# EAGLE library part PHAROS-TOCF (library HMC635x)
SUB-D
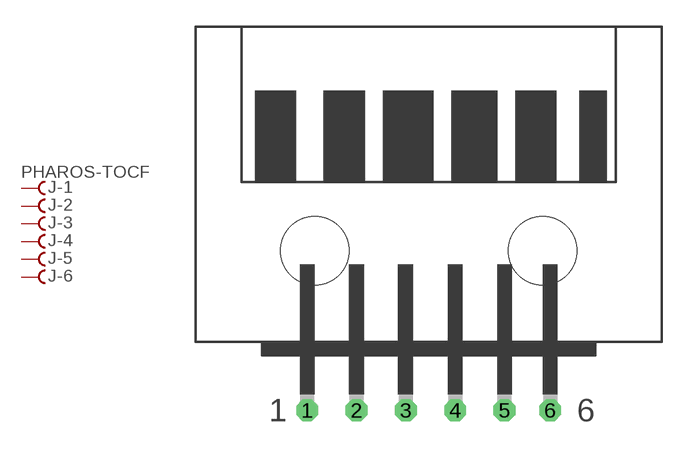
[diagram p1: symbol with the pads of PHAROS-TOCF; footprint PHAROS-TOCF]

Designator prefix J; gates -2=F -3=F -4=F -5=F -6=F -1=FV

## PHAROS-TOCF  [PHAROS-TOCF]
1  -1:F  pas
2  -2:F  pas
3  -3:F  pas
4  -4:F  pas
5  -5:F  pas
6  -6:F  pas

## Footprint PHAROS-TOCF (pad centres in mm)
drill 0.7 octagon: 1 -6.756,-2.54; 2 -4.013,-2.54; 3 -1.27,-2.54; 4 1.473,-2.54; 5 4.216,-2.54; 6 6.756,-2.54
hole 3.81 at -6.35,6.35
hole 3.81 at 6.35,6.35